# Altium footprint library CAP_1210.PcbLib: 4 footprints
Each footprint in its own frame and in the unit in brackets; x right, y up, seen from the top. Pads: shape width x height; smd on the part's side, far side on the other; paste and mask are expansions set on the pad; w line width, h text height; cw(c..) or ccw(c..) is an arc to the next point about the centre after c.
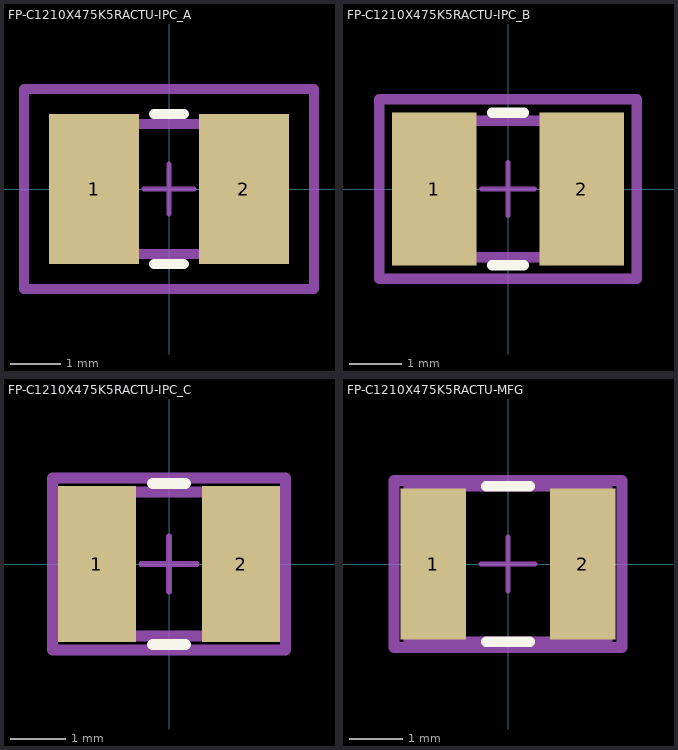
[diagram p0: the footprints below, top view; thin cyan lines are the x and y axes]

## FP-C1210X475K5RACTU-IPC_A [mm]
pads (2):
  rect 1.803x3.004 smd paste+0 mask+0: 1(-1.5,0) 2(1.5,0)
Top Overlay:
  lines w0.2: -0.299,-1.502 0.299,-1.502 ; -0.299,1.502 0.299,1.502
Top Assembly:
  lines w0.2: -2.902,-2.002 2.902,-2.002 2.902,2.002 -2.902,2.002 -2.902,-2.002
  text ".Designator" at 0,0.188 h1
Top 3D Body:
  lines w0.2: -1.65,-1.3 1.65,-1.3 1.65,1.3 -1.65,1.3 -1.65,-1.3
Top Courtyard:
  lines w0.2: -2.902,-2.002 2.902,-2.002 2.902,2.002 -2.902,2.002 -2.902,-2.002
Top Component Center:
  lines w0.1: -0.5,0 0.5,0 ; 0,-0.5 0,0.5
3D body "Cap_Kemet_C1210X475K5RACTU_eec.STEP": height 0.25, standoff 0, extent -2.902,-2.002 2.902,2.002

## FP-C1210X475K5RACTU-IPC_B [mm]
pads (2):
  rect 1.603x2.904 smd paste+0 mask+0: 1(-1.4,0) 2(1.4,0)
Top Overlay:
  lines w0.2: -0.299,-1.452 0.299,-1.452 ; -0.299,1.452 0.299,1.452
Top Assembly:
  lines w0.2: -2.452,-1.702 2.452,-1.702 2.452,1.702 -2.452,1.702 -2.452,-1.702
  text ".Designator" at 0,0.188 h1
Top 3D Body:
  lines w0.2: -1.65,-1.3 1.65,-1.3 1.65,1.3 -1.65,1.3 -1.65,-1.3
Top Courtyard:
  lines w0.2: -2.452,-1.702 2.452,-1.702 2.452,1.702 -2.452,1.702 -2.452,-1.702
Top Component Center:
  lines w0.1: -0.5,0 0.5,0 ; 0,-0.5 0,0.5
3D body "Cap_Kemet_C1210X475K5RACTU_eec.STEP": height 0.25, standoff 0, extent -2.452,-1.702 2.452,1.702

## FP-C1210X475K5RACTU-IPC_C [mm]
pads (2):
  rect 1.403x2.804 smd paste+0 mask+0: 1(-1.3,0) 2(1.3,0)
Top Overlay:
  lines w0.2: -0.299,-1.45 0.299,-1.45 ; -0.299,1.45 0.299,1.45
Top Assembly:
  lines w0.2: -2.102,-1.55 2.102,-1.55 2.102,1.55 -2.102,1.55 -2.102,-1.55
  text ".Designator" at 0,0.188 h1
Top 3D Body:
  lines w0.2: -1.65,-1.3 1.65,-1.3 1.65,1.3 -1.65,1.3 -1.65,-1.3
Top Courtyard:
  lines w0.2: -2.102,-1.55 2.102,-1.55 2.102,1.55 -2.102,1.55 -2.102,-1.55
Top Component Center:
  lines w0.1: -0.5,0 0.5,0 ; 0,-0.5 0,0.5
3D body "Cap_Kemet_C1210X475K5RACTU_eec.STEP": height 0.25, standoff 0, extent -2.102,-1.55 2.102,1.55

## FP-C1210X475K5RACTU-MFG [mm]
pads (2):
  rect 1.22x2.81 smd paste+0 mask+0: 1(-1.39,0) 2(1.39,0)
Top Overlay:
  lines w0.2: -0.405,-1.45 0.405,-1.45 ; -0.405,1.45 0.405,1.45
Top Assembly:
  lines w0.2: -2.125,-1.555 2.125,-1.555 2.125,1.555 -2.125,1.555 -2.125,-1.555
  text ".Designator" at 0,0.188 h1
Top 3D Body:
  lines w0.2: -1.85,-1.45 1.85,-1.45 1.85,1.45 -1.85,1.45 -1.85,-1.45
Top Courtyard:
  lines w0.2: -2.125,-1.555 2.125,-1.555 2.125,1.555 -2.125,1.555 -2.125,-1.555
Top Component Center:
  lines w0.1: -0.5,0 0.5,0 ; 0,-0.5 0,0.5
3D body "Cap_Kemet_C1210X475K5RACTU_eec.STEP": height 0.25, standoff 0, extent -2.125,-1.555 2.125,1.555